# EAGLE library part LA2284 (library ic-utc)
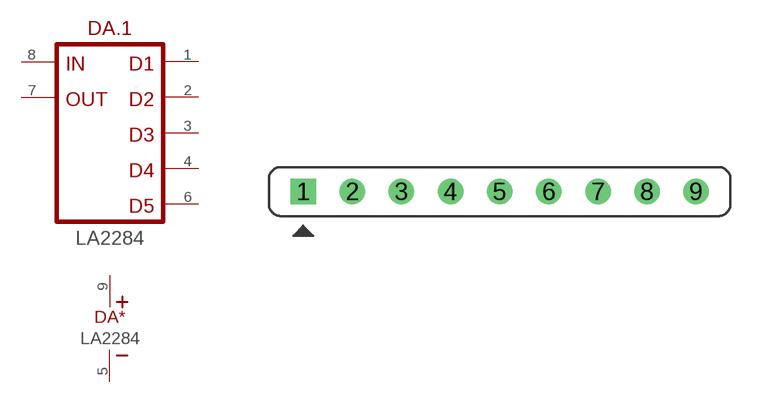
[diagram p0: symbol with the pads of SIL9; footprint SIL9]

Designator prefix DA; gates .1=LA2284 *=SUPPLY

## LA2284L  [SIL9]
1  .1:D1  in
2  .1:D2  in
3  .1:D3  in
4  .1:D4  in
5  *:V-  pwr
6  .1:D5  in
7  .1:OUT  in
8  .1:IN  in
9  *:V+  pwr

## Footprint SIL9 (pad centres in mm)
drill 0.813 square: 1 -10.16,0
drill 0.813: 2 -7.62,0; 3 -5.08,0; 4 -2.54,0; 5 0,0; 6 2.54,0; 7 5.08,0; 8 7.62,0; 9 10.16,0